# Altium schematic symbol library xNEO-S_V1.SchLib: 1 symbol
Pins are listed as number, name and electrical type; pins without a type are passive.

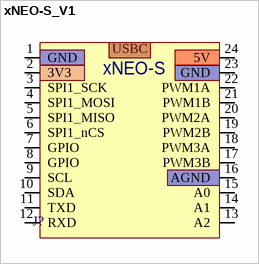
[diagram p0: symbol xNEO-S_V1]

## xNEO-S_V1
designator J?
pins: 1 GND, 2 3V3, 3 SPI1_SCK, 4 SPI1_MOSI, 5 SPI1_MISO, 6 SPI1_nCS, 7 GPIO, 8 GPIO, 9 SCL, 10 SDA, 11 TXD, 12 RXD, 13 A2, 14 A1, 15 A0, 16 AGND, 17 PWM3B, 18 PWM3A, 19 PWM2B, 20 PWM2A, 21 PWM1B, 22 PWM1A, 23 GND, 24 5V
text: USBC; xNEO-S